# EAGLE library part MLX90363 (library MLX90363)
Triaxis® Magnetometer IC With High Speed Serial Interface
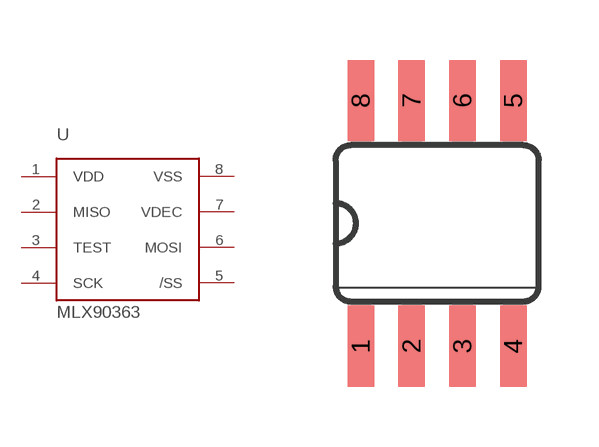
[diagram p0: symbol with the pads of SOIC-8; footprint SOIC-8]

Designator prefix -

## MLX90363  [SOIC-8]
1  VDD  pwr
2  MISO  out
3  TEST
4  SCK  in
5  /SS  in
6  MOSI  in
7  VDEC
8  VSS  pwr

## Footprint SOIC-8 (pad centres in mm)
SOIC-8 Package 0.05" (1.27mm) lead pitch Body 3.8 mm x 4.9 mm
smd 0.66 x 2.032: 1 -1.905,-3.073; 2 -0.635,-3.073; 3 0.635,-3.073; 4 1.905,-3.073; 5 1.905,3.073; 6 0.635,3.073; 7 -0.635,3.073; 8 -1.905,3.073